# Altium footprint library SparkFun-DigitalIC.PCBLIB: 112 footprints (part 4 of 7)
Each footprint in its own frame and in the unit in brackets; x right, y up, seen from the top. Pads: shape width x height; smd on the part's side, far side on the other; paste and mask are expansions set on the pad; w line width, h text height; cw(c..) or ccw(c..) is an arc to the next point about the centre after c.
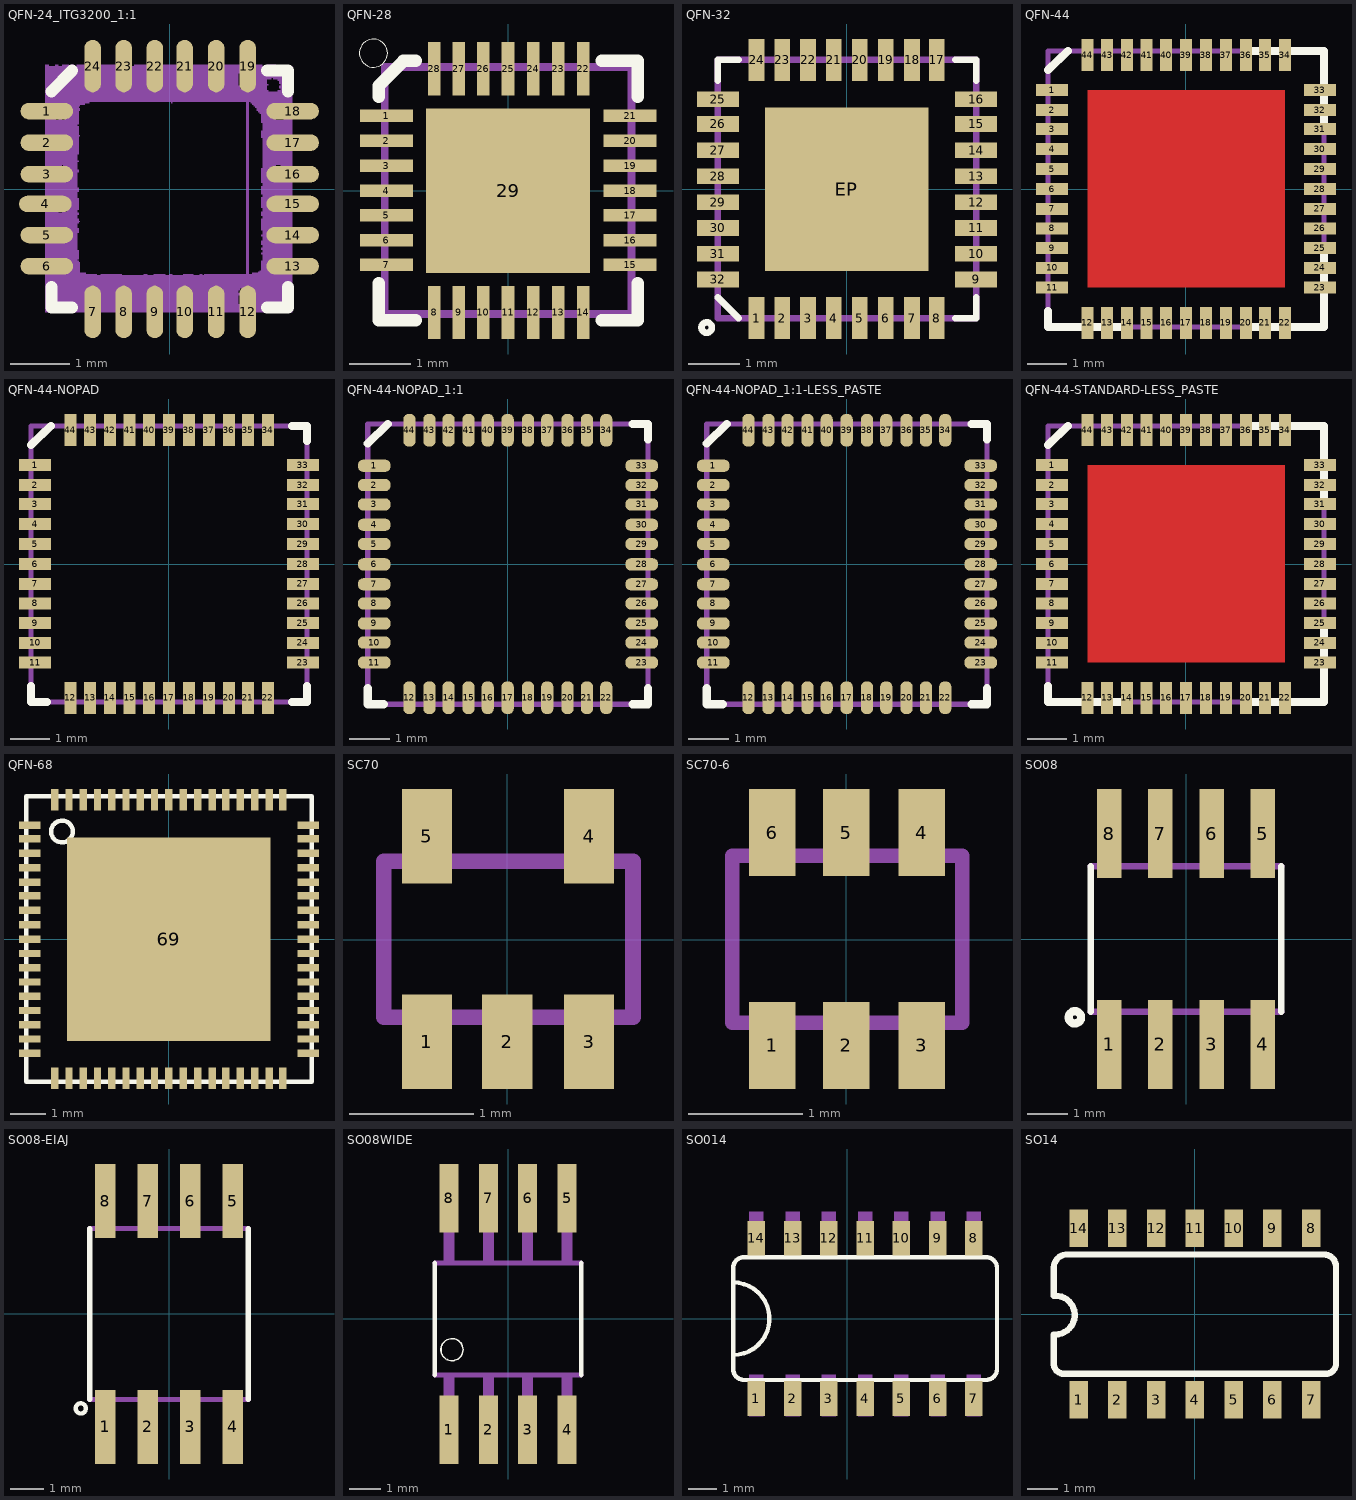
[diagram p3: the footprints below, top view; thin cyan lines are the x and y axes]

## QFN-24_ITG3200_1:1 [mil]
pads (24):
  rrect100% 35x11 smd: 1(-81.74,52) 2(-81.74,31) 3(-81.74,10) 4(-82.74,-9.84) 5(-81.74,-30.53) 6(-81.74,-51.21) 13(82,-51.21) 14(82,-30.53) 15(82,-9.84) 16(82,10) 17(82,31) 18(82,52)
  rrect100% 11x35 smd: 7(-51.21,-81.74) 8(-30.53,-81.74) 9(-9.84,-81.74) 10(10,-81.74) 11(31,-81.74) 12(52,-81.74) 19(52,82) 20(31,82) 21(10,82) 22(-9.84,82) 23(-30.53,82) 24(-51.21,82)
Top Overlay:
  lines w8: -78.74,-64.96 -78.74,-78.74 -64.96,-78.74 ; -78.74,65 -64.96,79 ; 65,-78.74 79,-78.74 79,-64.96 ; 65,79 79,79 79,65
Mechanical 14:
  lines w2: 52,-79.2 52,80
Mech81:
  drawing of 757 lines, arcs and shapes, not listed

## QFN-28 [mil]
pads (29):
  rect 34x8 smd: 1(-77.76,48) 2(-77.76,32) 3(-77.76,16) 4(-77.76,0) 5(-77.76,-15.75) 6(-77.76,-31.5) 7(-77.76,-47.24) 15(78,-47.24) 16(78,-31.5) 17(78,-15.75) 18(78,0) 19(78,16) 20(78,32) 21(78,48)
  rect 8x34 smd: 8(-47.24,-77.76) 9(-31.5,-77.76) 10(-15.75,-77.76) 11(0,-77.76) 12(16,-77.76) 13(32,-77.76) 14(48,-77.76) 22(48,78) 23(32,78) 24(16,78) 25(0,78) 26(-15.75,78) 27(-31.5,78) 28(-47.24,78)
  rect 105x105 smd: 29(0,0)
Top Overlay:
  circle w0: c-86,88 r9
  lines w8: -82.68,-59.06 -82.68,-82.68 -59.06,-82.68 ; -82.68,60 -82.68,67 -66.93,83 -59.06,83 ; 60,-82.68 83,-82.68 83,-59.06 ; 60,83 83,83 83,60
Top Paste:
  rectangle: -39.12,-39.12 -13.04,-13.04
  region: 40,40 14,40 14,14 40,14
  rectangle: -39.12,14 -13.04,40
  region: 40,-13.04 14,-13.04 14,-39.12 40,-39.12
  rectangle: -78.74,44 -61.02,52
  rectangle: -78.74,28 -61.02,36
  rectangle: -78.74,12 -61.02,20
  rectangle: -78.74,-3.94 -61.02,4
  rectangle: -78.74,-19.68 -61.02,-11.81
  rectangle: -78.74,-35.43 -61.02,-27.56
  rectangle: -78.74,-51.18 -61.02,-43.31
  region: -43.31,-78.74 -43.31,-61.02 -51.18,-61.02 -51.18,-78.74
  region: -27.56,-78.74 -27.56,-61.02 -35.43,-61.02 -35.43,-78.74
  region: -11.81,-78.74 -11.81,-61.02 -19.69,-61.02 -19.69,-78.74
  region: 4.01,-78.81 4.01,-60.95 -3.87,-60.95 -3.87,-78.81
  region: 19.94,-78.88 19.94,-60.88 12.06,-60.88 12.06,-78.88
  region: 35.94,-78.88 35.94,-60.88 28.06,-60.88 28.06,-78.88
  region: 51.94,-78.88 51.94,-60.88 44.06,-60.88 44.06,-78.88
  region: 79,-43.31 62,-43.31 62,-51.18 79,-51.18
  region: 79,-27.56 62,-27.56 62,-35.43 79,-35.43
  region: 79,-11.81 62,-11.81 62,-19.68 79,-19.69
  region: 79,4 62,4 62,-3.94 79,-3.94
  region: 79,20 62,20 62,12 79,12
  region: 79,36 62,36 62,28 79,28
  region: 79,52 62,52 62,44 79,44
  region: 44,79 44,61 52,61 52,79
  region: 28,79 28,61 36,61 36,79
  region: 12,79 12,61 20,61 20,79
  region: -3.93,78.93 -3.93,61.07 4.07,61.07 4.07,78.93
  region: -19.75,78.86 -19.75,61.14 -11.75,61.14 -11.75,78.86
  region: -35.5,78.86 -35.5,61.14 -27.5,61.14 -27.5,78.86
  region: -51.24,78.86 -51.24,61.14 -43.24,61.14 -43.24,78.86
Mechanical 2:
  text ">Name" at -100,-150 h77.5
Mechanical 4:
  text ">Value" at -100,100 h77.5
Mechanical 16:
  rectangle: -2.99,-78.74 3,-62.99
  rectangle: 13,-78.74 19,-62.99
  rectangle: 29,-78.74 35,-62.99
  rectangle: 45,-78.74 51,-62.99
  rectangle: -18.74,-78.74 -12.76,-62.99
  rectangle: -34.49,-78.74 -28.5,-62.99
  rectangle: -50.24,-78.74 -44.25,-62.99
  region: 78.87,-50.24 78.87,-44.24 63.13,-44.24 63.13,-50.24
  region: 78.87,-34.5 78.87,-28.5 63.13,-28.5 63.13,-34.5
  region: 78.87,-18.75 78.87,-12.75 63.13,-12.75 63.13,-18.75
  region: 78.94,-2.94 78.94,3.06 63.06,3.06 63.06,-2.94
  region: 79,13 79,19 63,19 63,13
  region: 79,29 79,35 63,35 63,29
  region: 79,45 79,51 63,51 63,45
  region: 51,79 45,79 45,63 51,63
  region: 35,79 29,79 29,63 35,63
  region: 19,79 13,79 13,63 19,63
  region: 3,79 -2.99,79 -2.99,63 3,63
  region: -12.76,79 -18.74,79 -18.74,63 -12.76,63
  region: -28.5,79 -34.49,79 -34.49,63 -28.5,63
  region: -44.25,79 -50.24,79 -50.24,63 -44.25,63
  region: -78.87,50.99 -78.87,45.01 -62.87,45.01 -62.87,50.99
  region: -78.87,34.99 -78.87,29.01 -62.87,29.01 -62.87,34.99
  region: -78.87,18.99 -78.87,13.01 -62.87,13.01 -62.87,18.99
  region: -78.8,3.06 -78.8,-2.93 -62.93,-2.93 -62.93,3.06
  region: -78.74,-12.76 -78.74,-18.74 -62.99,-18.74 -62.99,-12.76
  region: -78.74,-28.5 -78.74,-34.49 -62.99,-34.49 -62.99,-28.5
  region: -78.74,-44.25 -78.74,-50.24 -62.99,-50.24 -62.99,-44.25
  lines w5: -78.74,-78.74 -78.74,79 79,79 79,-78.74 -78.74,-78.74

## QFN-32 [mil]
pads (33):
  rect 12x32 smd: 1(-68.9,-98.43) 2(-49.21,-98.43) 3(-29.53,-98.43) 4(-9.84,-98.43) 5(10,-98.43) 6(30,-98.43) 7(50,-98.43) 8(69,-98.43) 17(69,99) 18(50,99) 19(30,99) 20(10,99) 21(-9.84,99) 22(-29.53,99) 23(-49.21,99) 24(-68.9,99)
  rect 32x12 smd: 9(99,-68.9) 10(99,-49.21) 11(99,-29.53) 12(99,-9.84) 13(99,10) 14(99,30) 15(99,50) 16(99,69) 25(-98.43,69) 26(-98.43,50) 27(-98.43,30) 28(-98.43,10) 29(-98.43,-9.84) 30(-98.43,-29.53) 31(-98.43,-49.21) 32(-98.43,-68.9)
  rect 125x125 smd: EP(0,0)
Top Overlay:
  circle w5: c-107,-105.66 r4
  lines w5: -98.43,-82.68 -82.68,-98.43 ; -98.43,83 -98.43,99 -82.68,99 ; 83,-98.43 99,-98.43 99,-82.68 ; 83,99 99,99 99,83
Top Paste:
  rectangle: -57.09,6 -5.91,58
  region: 6,58 6,6 58,6 58,58
  region: -5.91,-57.09 -5.91,-5.91 -57.09,-5.91 -57.09,-57.09
  region: 58,-5.91 6,-5.91 6,-57.09 58,-57.09
Mechanical 2:
  text ">Name" at -50,60 h26.35
Mechanical 4:
  text ">Value" at -50,-75 h26.35
Mechanical 16:
  rectangle: -98.43,6 -82.68,15
  rectangle: -98.43,-14.57 -82.68,-5.12
  rectangle: -98.43,-34.25 -82.68,-24.8
  rectangle: -98.43,-53.94 -82.68,-44.49
  rectangle: -98.43,-73.62 -82.68,-64.17
  rectangle: -98.43,25 -82.68,35
  rectangle: -98.43,45 -82.68,54
  rectangle: -98.43,65 -82.68,74
  region: 5,99 5,83 15,83 15,99
  region: -14.84,98.87 -14.84,83.13 -4.84,83.13 -4.84,98.87
  region: -34.53,98.87 -34.53,83.13 -24.53,83.13 -24.53,98.87
  region: -54.21,98.87 -54.21,83.13 -44.21,83.13 -44.21,98.87
  region: -73.9,98.87 -73.9,83.13 -63.9,83.13 -63.9,98.87
  region: 25,99 25,83 35,83 35,99
  region: 45,99 45,83 55,83 55,99
  region: 64.5,98.5 64.5,83.5 74.5,83.5 74.5,98.5
  region: -5.12,-98.43 -5.12,-82.68 -14.57,-82.68 -14.57,-98.43
  region: 14.72,-98.55 14.72,-82.55 5.28,-82.55 5.28,-98.55
  region: 34.72,-98.55 34.72,-82.55 25.28,-82.55 25.28,-98.55
  region: 54.72,-98.55 54.72,-82.55 45.28,-82.55 45.28,-98.55
  region: 74.22,-98.05 74.22,-83.05 64.78,-83.05 64.78,-98.05
  region: -24.8,-98.43 -24.8,-82.68 -34.25,-82.68 -34.25,-98.43
  region: -44.49,-98.43 -44.49,-82.68 -53.94,-82.68 -53.94,-98.43
  region: -64.17,-98.43 -64.17,-82.68 -73.62,-82.68 -73.62,-98.43
  region: 99,-5.12 83,-5.12 83,-14.57 99,-14.57
  region: 99,15 83,15 83,6 99,6
  region: 99,35 83,35 83,25 99,25
  region: 99,54 83,54 83,45 99,45
  region: 99,74 83,74 83,65 99,65
  region: 99,-24.8 83,-24.8 83,-34.25 99,-34.25
  region: 99,-44.49 83,-44.49 83,-53.94 99,-53.94
  region: 99,-64.17 83,-64.17 83,-73.62 99,-73.62
  lines w5: -98.43,-98.43 99,-98.43 99,99 -98.43,99 -98.43,-98.43

## QFN-44 [mil]
pads (44):
  rect 32x12 smd: 1(-133.86,99) 2(-133.86,79) 3(-133.86,60) 4(-133.86,40) 5(-133.86,20) 6(-133.86,0) 7(-133.86,-19.68) 8(-133.86,-39.37) 9(-133.86,-59.06) 10(-133.86,-78.74) 11(-133.86,-98.43) 23(134,-98.43) 24(134,-78.74) 25(134,-59.06) 26(134,-39.37) 27(134,-19.68) 28(134,0) 29(134,20) 30(134,40) 31(134,60) 32(134,79) 33(134,99)
  rect 12x32 smd: 12(-98.43,-133.86) 13(-78.74,-133.86) 14(-59.06,-133.86) 15(-39.37,-133.86) 16(-19.68,-133.86) 17(0,-133.86) 18(20,-133.86) 19(40,-133.86) 20(60,-133.86) 21(79,-133.86) 22(99,-133.86) 34(99,134) 35(79,134) 36(60,134) 37(40,134) 38(20,134) 39(0,134) 40(-19.68,134) 41(-39.37,134) 42(-59.06,134) 43(-78.74,134) 44(-98.43,134)
Top Layer:
  rectangle: -98.43,-98.43 99,99
Top Overlay:
  lines w8: -137.8,-122.05 -137.8,-137.8 -64.96,-137.8 ; -137.8,119 -118.11,138 ; 65,-137.8 138,-137.8 138,-64.96 ; 65,138 138,138 138,65
Top Solder:
  rectangle: -19.68,-19.68 20,20
Mechanical 2:
  text ">NAME" at -96.46,189 h77.5
Mechanical 4:
  text ">VALUE" at -98.43,-242.13 h77.5
Mechanical 16:
  lines w5: -137.8,-137.8 -137.8,138 138,138 138,-137.8 -133.86,-137.8

## QFN-44-NOPAD [mil]
pads (44):
  rect 32x12 smd: 1(-133.86,99) 2(-133.86,79) 3(-133.86,60) 4(-133.86,40) 5(-133.86,20) 6(-133.86,0) 7(-133.86,-19.68) 8(-133.86,-39.37) 9(-133.86,-59.06) 10(-133.86,-78.74) 11(-133.86,-98.43) 23(134,-98.43) 24(134,-78.74) 25(134,-59.06) 26(134,-39.37) 27(134,-19.68) 28(134,0) 29(134,20) 30(134,40) 31(134,60) 32(134,79) 33(134,99)
  rect 12x32 smd: 12(-98.43,-133.86) 13(-78.74,-133.86) 14(-59.06,-133.86) 15(-39.37,-133.86) 16(-19.68,-133.86) 17(0,-133.86) 18(20,-133.86) 19(40,-133.86) 20(60,-133.86) 21(79,-133.86) 22(99,-133.86) 34(99,134) 35(79,134) 36(60,134) 37(40,134) 38(20,134) 39(0,134) 40(-19.68,134) 41(-39.37,134) 42(-59.06,134) 43(-78.74,134) 44(-98.43,134)
Top Overlay:
  lines w8: -137.8,-122.05 -137.8,-137.8 -122.05,-137.8 ; -137.8,119 -118.11,138 ; 123,-137.8 138,-137.8 138,-122.05 ; 123,138 138,138 138,123
Mechanical 2:
  text ">NAME" at -96.46,189 h77.5
Mechanical 4:
  text ">VALUE" at -98.43,-242.13 h77.5
Mechanical 16:
  lines w5: -137.8,-137.8 -137.8,138 138,138 138,-137.8 -133.86,-137.8

## QFN-44-NOPAD_1:1 [mil]
pads (44):
  rrect85% 32x12 smd: 1(-131.36,97) 2(-131.36,78) 3(-131.36,59) 4(-131.36,39) 5(-131.36,20) 6(-131.36,0) 7(-131.36,-19.69) 8(-131.36,-38.54) 9(-131.36,-58.22) 10(-131.36,-77.08) 11(-131.36,-96.76) 23(132,-96.76) 24(132,-77.08) 25(132,-58.22) 26(132,-38.54) 27(132,-19.68) 28(132,0) 29(132,20) 30(132,39) 31(132,59) 32(132,78) 33(132,97)
  rrect85% 12x32 smd: 12(-96.76,-131.36) 13(-77.08,-131.36) 14(-58.22,-131.36) 15(-38.54,-131.36) 16(-19.68,-131.36) 17(0,-131.36) 18(20,-131.36) 19(39,-131.36) 20(59,-131.36) 21(78,-131.36) 22(97,-131.36) 34(97,132) 35(78,132) 36(59,132) 37(39,132) 38(20,132) 39(0,132) 40(-19.68,132) 41(-38.54,132) 42(-58.22,132) 43(-77.08,132) 44(-96.76,132)
Top Overlay:
  lines w8: -137.8,-122.05 -137.8,-137.8 -122.05,-137.8 ; -137.8,119 -118.11,138 ; 123,-137.8 138,-137.8 138,-122.05 ; 123,138 138,138 138,123
Mechanical 2:
  text ">NAME" at -96.46,189 h77.5
Mechanical 4:
  text ">VALUE" at -98.43,-242.13 h77.5
Mechanical 16:
  lines w5: -137.8,-137.8 -137.8,138 138,138 138,-137.8 -133.86,-137.8

## QFN-44-NOPAD_1:1-LESS_PASTE [mil]
pads (44):
  rrect85% 32x12 smd: 1(-131.36,97) 2(-131.36,78) 3(-131.36,59) 4(-131.36,39) 5(-131.36,20) 6(-131.36,0) 7(-131.36,-19.69) 8(-131.36,-38.54) 9(-131.36,-58.22) 10(-131.36,-77.08) 11(-131.36,-96.76) 23(132,-96.76) 24(132,-77.08) 25(132,-58.22) 26(132,-38.54) 27(132,-19.68) 28(132,0) 29(132,20) 30(132,39) 31(132,59) 32(132,78) 33(132,97)
  rrect85% 12x32 smd: 12(-96.76,-131.36) 13(-77.08,-131.36) 14(-58.22,-131.36) 15(-38.54,-131.36) 16(-19.68,-131.36) 17(0,-131.36) 18(20,-131.36) 19(39,-131.36) 20(59,-131.36) 21(78,-131.36) 22(97,-131.36) 34(97,132) 35(78,132) 36(59,132) 37(39,132) 38(20,132) 39(0,132) 40(-19.68,132) 41(-38.54,132) 42(-58.22,132) 43(-77.08,132) 44(-96.76,132)
Top Overlay:
  lines w8: -137.8,-122.05 -137.8,-137.8 -122.05,-137.8 ; -137.8,119 -118.11,138 ; 123,-137.8 138,-137.8 138,-122.05 ; 123,138 138,138 138,123
Top Paste:
  rectangle: -101.25,124 -92.25,146
  rectangle: -81.5,124 -72.5,146
  rectangle: -62.75,124 -53.75,146
  rectangle: -43,124 -34,146
  rectangle: -24.25,124 -15.25,146
  rectangle: -4.5,124 5,146
  rectangle: 16,124 25,146
  rectangle: 34,124 43,146
  rectangle: 54,124 63,146
  rectangle: 73,124 82,146
  rectangle: 93,124 102,146
  region: -124,-101.25 -124,-92.25 -145.5,-92.25 -145.5,-101.25
  region: -124,-81.5 -124,-72.5 -145.5,-72.5 -145.5,-81.5
  region: -124,-62.75 -124,-53.75 -145.5,-53.75 -145.5,-62.75
  region: -124,-43 -124,-34 -145.5,-34 -145.5,-43
  region: -124,-24.25 -124,-15.25 -145.5,-15.25 -145.5,-24.25
  region: -123.88,-4.38 -123.88,4.62 -145.62,4.63 -145.62,-4.37
  region: -123.75,15.5 -123.75,24.5 -145.75,24.5 -145.75,15.5
  region: -123.75,34.5 -123.75,43.5 -145.75,43.5 -145.75,34.5
  region: -124.25,54 -124.25,63 -145.25,63 -145.25,54
  region: -124.25,73 -124.25,82 -145.25,82 -145.25,73
  region: -123.75,92.5 -123.75,101.5 -145.75,101.5 -145.75,92.5
  region: 124.5,101.5 124.5,92.5 146.5,92.5 146.5,101.5
  region: 125,82 125,73 146,73 146,82
  region: 125,63 125,54 146,54 146,63
  region: 124.5,43.5 124.5,34.5 146.5,34.5 146.5,43.5
  region: 124.5,24.5 124.5,15.5 146.5,15.5 146.5,24.5
  region: 124.62,4.63 124.62,-4.37 146.38,-4.38 146.38,4.62
  region: 124.75,-15.25 124.75,-24.25 146.25,-24.25 146.25,-15.25
  region: 124.75,-34 124.75,-43 146.25,-43 146.25,-34
  region: 124.75,-53.75 124.75,-62.75 146.25,-62.75 146.25,-53.75
  region: 124.75,-72.5 124.75,-81.5 146.25,-81.5 146.25,-72.5
  region: 124.75,-92.25 124.75,-101.25 146.25,-101.25 146.25,-92.25
  region: 102,-124 93,-124 93,-145.5 102,-145.5
  region: 82,-124 73,-124 73,-145.5 82,-145.5
  region: 63,-124 54,-124 54,-145.5 63,-145.5
  region: 43,-124 34,-124 34,-145.5 43,-145.5
  region: 25,-124 16,-124 16,-145.5 25,-145.5
  region: 5,-124 -4.5,-124 -4.5,-145.5 5,-145.5
  region: -15.25,-124 -24.25,-124 -24.25,-145.5 -15.25,-145.5
  region: -34,-124 -43,-124 -43,-145.5 -34,-145.5
  region: -53.75,-124 -62.75,-124 -62.75,-145.5 -53.75,-145.5
  region: -72.5,-124 -81.5,-124 -81.5,-145.5 -72.5,-145.5
  region: -92.25,-124 -101.25,-124 -101.25,-145.5 -92.25,-145.5
Mechanical 2:
  text ">NAME" at -96.46,189 h77.5
Mechanical 4:
  text ">VALUE" at -98.43,-242.13 h77.5
Mechanical 16:
  lines w5: -137.8,-137.8 -137.8,138 138,138 138,-137.8 -133.86,-137.8

## QFN-44-STANDARD-LESS_PASTE [mil]
pads (44):
  rect 32x12 smd: 1(-133.86,99) 2(-133.86,79) 3(-133.86,60) 4(-133.86,40) 5(-133.86,20) 6(-133.86,0) 7(-133.86,-19.68) 8(-133.86,-39.37) 9(-133.86,-59.06) 10(-133.86,-78.74) 11(-133.86,-98.43) 23(134,-98.43) 24(134,-78.74) 25(134,-59.06) 26(134,-39.37) 27(134,-19.68) 28(134,0) 29(134,20) 30(134,40) 31(134,60) 32(134,79) 33(134,99)
  rect 12x32 smd: 12(-98.43,-133.86) 13(-78.74,-133.86) 14(-59.06,-133.86) 15(-39.37,-133.86) 16(-19.68,-133.86) 17(0,-133.86) 18(20,-133.86) 19(40,-133.86) 20(60,-133.86) 21(79,-133.86) 22(99,-133.86) 34(99,134) 35(79,134) 36(60,134) 37(40,134) 38(20,134) 39(0,134) 40(-19.68,134) 41(-39.37,134) 42(-59.06,134) 43(-78.74,134) 44(-98.43,134)
Top Layer:
  rectangle: -98.43,-98.43 99,99
Top Overlay:
  lines w8: -137.8,-122.05 -137.8,-137.8 -64.96,-137.8 ; -137.8,119 -118.11,138 ; 65,-137.8 138,-137.8 138,-64.96 ; 65,138 138,138 138,65
Top Paste:
  rectangle: -103.05,128 -94.05,149
  rectangle: -83.15,128 -74.15,149
  rectangle: -63.55,128 -54.55,149
  rectangle: -43.85,128 -34.85,149
  rectangle: -24.2,128 -15.2,149
  rectangle: -4.5,128 5,149
  rectangle: 16,128 25,149
  rectangle: 35,128 44,149
  rectangle: 55,128 64,149
  rectangle: 75,128 84,149
  rectangle: 94,128 103,149
  region: -127.5,-103.05 -127.5,-94.05 -149,-94.05 -149,-103.05
  region: -127.5,-83.15 -127.5,-74.15 -149,-74.15 -149,-83.15
  region: -127.5,-63.55 -127.5,-54.55 -149,-54.55 -149,-63.55
  region: -127.5,-43.85 -127.5,-34.85 -149,-34.85 -149,-43.85
  region: -127.5,-24.2 -127.5,-15.2 -149,-15.2 -149,-24.2
  region: -127.38,-4.38 -127.38,4.62 -149.12,4.63 -149.12,-4.37
  region: -127.25,15.5 -127.25,24.5 -149.25,24.5 -149.25,15.5
  region: -127.25,35.5 -127.25,44.5 -149.25,44.5 -149.25,35.5
  region: -127.75,55 -127.75,64 -148.75,64 -148.75,55
  region: -127.25,74.5 -127.25,83.5 -149.25,83.5 -149.25,74.5
  region: -127.25,94.5 -127.25,103.5 -149.25,103.5 -149.25,94.5
  region: 104,-127.5 95,-127.5 95,-149 104,-149
  region: 84,-127.5 75,-127.5 75,-149 84,-149
  region: 64,-127.5 55,-127.5 55,-149 64,-149
  region: 44,-127.5 35,-127.5 35,-149 44,-149
  region: 25,-127.5 16,-127.5 16,-149 25,-149
  region: 5,-127.5 -4.5,-127.5 -4.5,-149 5,-149
  region: -15.15,-127.5 -24.15,-127.5 -24.15,-149 -15.15,-149
  region: -34.95,-127.5 -43.95,-127.5 -43.95,-149 -34.95,-149
  region: -54.6,-127.5 -63.6,-127.5 -63.6,-149 -54.6,-149
  region: -74.25,-127.5 -83.25,-127.5 -83.25,-149 -74.25,-149
  region: -93.95,-127.5 -102.95,-127.5 -102.95,-149 -93.95,-149
  region: 127.5,103.5 127.5,94.5 149.5,94.5 149.5,103.5
  region: 127.5,83.5 127.5,74.5 149.5,74.5 149.5,83.5
  region: 128,64 128,55 149,55 149,64
  region: 127.5,44.5 127.5,35.5 149.5,35.5 149.5,44.5
  region: 127.5,24.5 127.5,15.5 149.5,15.5 149.5,24.5
  region: 127.62,4.63 127.62,-4.37 149.38,-4.38 149.38,4.62
  region: 127.75,-15.15 127.75,-24.15 149.25,-24.15 149.25,-15.15
  region: 127.75,-34.95 127.75,-43.95 149.25,-43.95 149.25,-34.95
  region: 127.75,-54.6 127.75,-63.6 149.25,-63.6 149.25,-54.6
  region: 127.75,-74.25 127.75,-83.25 149.25,-83.25 149.25,-74.25
  region: 127.75,-93.95 127.75,-102.95 149.25,-102.95 149.25,-93.95
Mechanical 2:
  text ">NAME" at -96.46,189 h77.5
Mechanical 4:
  text ">VALUE" at -98.43,-242.13 h77.5
Mechanical 16:
  lines w5: -137.8,-137.8 -137.8,138 138,138 138,-137.8 -133.86,-137.8

## QFN-68 [mil]
pads (69):
  rect 24x8 smd: 1(-153.54,126) 2(-153.54,111) 3(-153.54,95) 4(-153.54,79) 5(-153.54,63) 6(-153.54,48) 7(-153.54,32) 8(-153.54,16) 9(-153.54,0) 10(-153.54,-15.75) 11(-153.54,-31.5) 12(-153.54,-47.24) 13(-153.54,-62.99) 14(-153.54,-78.74) 15(-153.54,-94.49) 16(-153.54,-110.24) 17(-153.54,-125.98) 35(154,-125.98) 36(154,-110.24) 37(154,-94.49) 38(154,-78.74) 39(154,-62.99) 40(154,-47.24) 41(154,-31.5) 42(154,-15.75) 43(154,0) 44(154,16) 45(154,32) 46(154,48) 47(154,63) 48(154,79) 49(154,95) 50(154,111) 51(154,126)
  rect 8x24 smd: 18(-125.98,-153.54) 19(-110.24,-153.54) 20(-94.49,-153.54) 21(-78.74,-153.54) 22(-62.99,-153.54) 23(-47.24,-153.54) 24(-31.5,-153.54) 25(-15.75,-153.54) 26(0,-153.54) 27(16,-153.54) 28(32,-153.54) 29(48,-153.54) 30(63,-153.54) 31(79,-153.54) 32(95,-153.54) 33(111,-153.54) 34(126,-153.54) 52(126,154) 53(111,154) 54(95,154) 55(79,154) 56(63,154) 57(48,154) 58(32,154) 59(16,154) 60(0,154) 61(-15.75,154) 62(-31.5,154) 63(-47.24,154) 64(-62.99,154) 65(-78.74,154) 66(-94.49,154) 67(-110.24,154) 68(-125.98,154)
  rect 225x225 smd: 69(0,0)
Top Overlay:
  circle w5: c-118.11,119 r12
  lines w5: -157.48,-157.48 158,-157.48 158,158 -157.48,158 -157.48,-157.48
Top Paste:
  rectangle: -19.68,60 20,99
  rectangle: -19.68,-19.68 20,20
  rectangle: -19.68,-98.43 20,-59.06
  rectangle: 60,-19.68 99,20
  rectangle: -98.43,-19.68 -59.06,20
Mechanical 2:
  text ">NAME" at -100,-50 h37.2
Mechanical 4:
  text ">VALUE" at -100,-100 h37.2

## SC70 [mil]
pads (5):
  rect 16x30 smd: 1(-25.59,-32.48) 2(0,-32.48) 3(26,-32.48) 4(26,33) 5(-25.59,33)
Top Paste:
  rectangle: -33.46,18 -17.72,48
  rectangle: 18,18 34,48
  rectangle: -33,-46 -20,-19
  rectangle: -6.5,-46 7,-19
  rectangle: 20,-46 33,-19
Mechanical 2:
  text ">NAME" at -35,60 h24.8
Mechanical 4:
  text ">VALUE" at -30,-10 h24.8
Mechanical 16:
  lines w5: -39.37,-24.61 -39.37,25 40,25 40,-24.61 -39.37,-24.61

## SC70-6 [mil]
pads (6):
  rect 16x30 smd: 1(-25.59,-36.42) 2(0,-36.42) 3(26,-36.42) 4(26,37) 5(0,37) 6(-25.59,37)
Top Paste:
  rectangle: -33.46,22 -17.72,52
  rectangle: 18,22 34,52
  rectangle: -33.46,-51.18 -17.72,-21.65
  rectangle: -7.87,22 8,52
  rectangle: -33.46,-51.18 -17.72,-21.65
  rectangle: -33.46,-51.18 -17.72,-21.65
  rectangle: -7.91,-51.18 8,-21.65
  rectangle: 18,-51.18 34,-21.65
Mechanical 2:
  text ">NAME" at -35,60 h24.8
Mechanical 4:
  text ">VALUE" at -30,-10 h24.8
Mechanical 16:
  lines w5: -39.37,-28.54 -39.37,29 40,29 40,-28.54 -39.37,-28.54

## SO08 [mil]
pads (8):
  rect 24x87 smd: 1(-75,-103) 2(-25,-103) 3(25,-103) 4(75,-103) 5(75,103) 6(25,103) 7(-25,103) 8(-75,103)
Top Overlay:
  circle w8: c-108.5,-76.5 r6
  lines w6: -92.99,-70.98 -92.99,71 ; 93,-70.98 93,71
Mechanical 2:
  text ">NAME" at -50,0 h24.8
Mechanical 4:
  text ">VALUE" at -50,-25 h24.8
Mechanical 16:
  rectangle: -82,-113 -68,-73
  rectangle: -32,-113 -18,-73
  rectangle: 18,-113 32,-73
  rectangle: 68,-113 82,-73
  rectangle: -82,73 -68,113
  rectangle: -32,73 -18,113
  rectangle: 18,73 32,113
  rectangle: 68,73 82,113
  lines w6: -92.99,-70.98 93,-70.98 ; -92.99,71 93,71

## SO08-EIAJ [mil]
pads (8):
  rect 24x87 smd: 1(-75,-133) 2(-25,-133) 3(25,-133) 4(75,-133) 5(75,132) 6(25,132) 7(-25,132) 8(-75,132)
Top Overlay:
  circle w5: c-103.5,-111.3 r6
  lines w6: -92.99,-100.98 -92.99,100 ; 93,-100.98 93,100
Mechanical 2:
  text ">NAME" at -50,-30 h24.8
Mechanical 4:
  text ">VALUE" at -50,-55 h24.8
Mechanical 16:
  rectangle: -82,-143 -68,-103
  rectangle: -32,-143 -18,-103
  rectangle: 18,-143 32,-103
  rectangle: 68,-143 82,-103
  rectangle: -82,102 -68,142
  rectangle: -32,102 -18,142
  rectangle: 18,102 32,142
  rectangle: 68,102 82,142
  lines w6: -92.99,-100.98 93,-100.98 ; -92.99,100 93,100

## SO08WIDE [mil]
pads (8):
  rect 24x87 smd: 1(-75,-140.5) 2(-25,-140.5) 3(25,-140.5) 4(75,-140.5) 5(75,153) 6(25,153) 7(-25,153) 8(-75,153)
Top Overlay:
  circle w2: c-71,-39 r14
  lines w6: -92.99,-70.98 -92.99,71 ; 93,-70.98 93,71
Mechanical 2:
  text ">NAME" at -107.5,-80 h77.5
Mechanical 4:
  text ">VALUE" at 158,-80 h77.5
Mechanical 16:
  rectangle: -82,-113 -68,-73
  rectangle: -32,-113 -18,-73
  rectangle: 18,-113 32,-73
  rectangle: 68,-113 82,-73
  rectangle: -82,73 -68,113
  rectangle: -32,73 -18,113
  rectangle: 18,73 32,113
  rectangle: 68,73 82,113
  lines w6: -92.99,-70.98 93,-70.98 ; -92.99,71 93,71

## SO014 [mil]
pads (14):
  rect 24x48 smd: 1(-125,-110.24) 2(-75,-110.24) 3(-25,-110.24) 4(25,-110.24) 5(75,-110.24) 6(125,-110.24) 7(175,-110.24) 8(175,111) 9(125,111) 10(75,111) 11(25,111) 12(-25,111) 13(-75,111) 14(-125,111)
Top Overlay:
  rectangle: -135,-89.5 -115,-84.5
  rectangle: -135,-89.5 -115,-84.5
  rectangle: -85,-89.5 -65,-84.5
  rectangle: -35,-89.5 -15,-84.5
  rectangle: 15,-89.5 35,-84.5
  rectangle: 65,-89.5 85,-84.5
  rectangle: 115,-89.5 135,-84.5
  rectangle: 165,-89.5 185,-84.5
  rectangle: -135,85 -115,90
  rectangle: -135,85 -115,90
  rectangle: -85,85 -65,90
  rectangle: -35,85 -15,90
  rectangle: 15,85 35,90
  rectangle: 65,85 85,90
  rectangle: 115,85 135,90
  rectangle: 165,85 185,90
  lines w6: -157,-50 -157,50 ; -157,-50 -157,-69.5 ccw(c-142,-69.5) -142,-84.5 192,-84.5 ccw(c192,-69.5) 207,-69.5 207,70 ccw(c192,70) 192,85 -142,85 ccw(c-142,70) -157,70 -157,50 ; -157,-50 ccw(c-157,0) -157,50
Mechanical 2:
  text ">NAME" at -170,-102.5 h77.5
Mechanical 16:
  rectangle: -135,-135 -115,-77
  rectangle: -85,-135 -65,-77
  rectangle: -35,-135 -15,-77
  rectangle: 15,-135 35,-77
  rectangle: 65,-135 85,-77
  rectangle: 115,-135 135,-77
  rectangle: 165,-135 185,-77
  rectangle: -135,90 -115,148
  rectangle: -85,90 -65,148
  rectangle: -35,90 -15,148
  rectangle: 15,90 35,148
  rectangle: 65,90 85,148
  rectangle: 115,90 135,148
  rectangle: 165,90 185,148

## SO14 [mil]
pads (14):
  rect 24x48 smd: 1(-150,-110.24) 2(-100,-110.24) 3(-50,-110.24) 4(0,-110.24) 5(50,-110.24) 6(100,-110.24) 7(150,-110.24) 8(150,111) 9(100,111) 10(50,111) 11(0,111) 12(-50,111) 13(-100,111) 14(-150,111)
Top Overlay:
  lines w8: -182,-26 -182,-65.56 ccw(c-168.97,-63.6) -167,-76.63 171,-76.63 ccw(c169,-63.63) 182,-61.63 182,62 ccw(c167,62) 167,77 -167,77 ccw(c-165,60) -182,58 -182,24 ; -180,-26 ccw(c-180,-1) -180,24
Mechanical 2:
  text ">NAME" at -125,25 h37.2
Mechanical 4:
  text ">VALUE" at -125,-50 h37.2
Mechanical 16:
  rectangle: -160,-130 -140,-89.5
  rectangle: -110,-130 -90,-89.5
  rectangle: -60,-130 -40,-89.5
  rectangle: -10,-130 10,-89.5
  rectangle: 40,-130 60,-89.5
  rectangle: 90,-130 110,-89.5
  rectangle: 140,-130 160,-89.5
  rectangle: -160,90 -140,133
  rectangle: -110,90 -90,130
  rectangle: -60,90 -40,130
  rectangle: -10,90 10,130
  rectangle: 40,90 60,130
  rectangle: 90,90 110,130
  rectangle: 140,90 160,130